# EAGLE library part PLC (library EL_POTENCIA_LIBRERIA_VES2018)
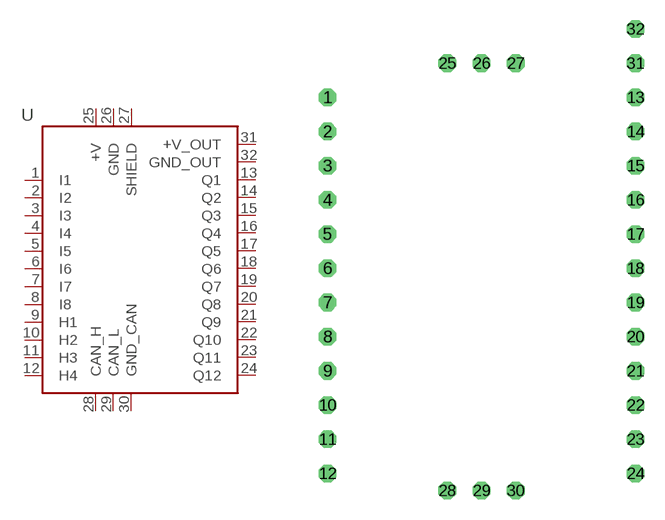
[diagram p2: symbol with the pads of PLC; footprint PLC]

Designator prefix -

## PLC  [PLC]
1  I1
2  I2
3  I3
4  I4
5  I5
6  I6
7  I7
8  I8
9  H1
10  H2
11  H3
12  H4
13  Q1
14  Q2
15  Q3
16  Q4
17  Q5
18  Q6
19  Q7
20  Q8
21  Q9
22  Q10
23  Q11
24  Q12
25  +V  pwr
26  GND  pwr
27  SHIELD  pwr
28  CAN_H
29  CAN_L
30  GND_CAN
31  +V_OUT
32  GND_OUT

## Footprint PLC (pad centres in mm)
drill 0.8 octagon: 1 -17.78,7.62; 2 -17.78,5.08; 3 -17.78,2.54; 4 -17.78,0; 5 -17.78,-2.54; 6 -17.78,-5.08; 7 -17.78,-7.62; 8 -17.78,-10.16; 9 -17.78,-12.7; 10 -17.78,-15.24; 11 -17.78,-17.78; 12 -17.78,-20.32; 13 5.08,7.62; 14 5.08,5.08; 15 5.08,2.54; 16 5.08,0; 17 5.08,-2.54; 18 5.08,-5.08; 19 5.08,-7.62; 20 5.08,-10.16; 21 5.08,-12.7; 22 5.08,-15.24; 23 5.08,-17.78; 24 5.08,-20.32; 25 -8.89,10.16; 26 -6.35,10.16; 27 -3.81,10.16; 28 -8.89,-21.59; 29 -6.35,-21.59; 30 -3.81,-21.59; 31 5.08,10.16; 32 5.08,12.7